# Altium schematic symbol library SCH - POWER - SWITCHMODE - TI TPS60503_DGS_10.SchLib: 1 symbol
Pins are listed as number, name and electrical type; pins without a type are passive.

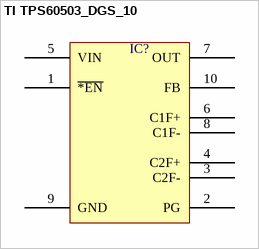
[diagram p0: symbol TI TPS60503_DGS_10]

## TI TPS60503_DGS_10
designator IC?  (value not drawn)
pins: 1 ~{*EN}, 2 PG, 3 C2F-, 4 C2F+, 5 VIN, 6 C1F+, 7 OUT, 8 C1F-, 9 GND, 10 FB